# EAGLE library part XMC1000-16 (library INF-XMC)
XMC1000 Series 16 Pin
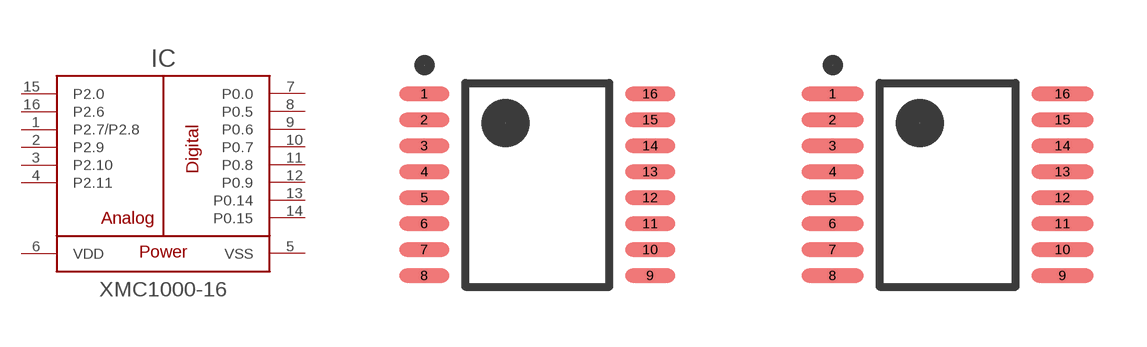
[diagram p8: symbol with the pads of TSSOP-16-1.25; footprints TSSOP-16-1.25, TSSOP-16-1.55]

Designator prefix IC

## XMC1000-16-1.25  [TSSOP-16-1.25]
1  P2.7/P2.8  in
2  P2.9  in
3  P2.10
4  P2.11
5  VSS  pwr
6  VDD  pwr
7  P0.0
8  P0.5
9  P0.6
10  P0.7
11  P0.8
12  P0.9
13  P0.14
14  P0.15
15  P2.0
16  P2.6  in

## XMC1000-16-1.55  [TSSOP-16-1.55]
Pads as for TSSOP-16-1.25

## Footprint TSSOP-16-1.25 (pad centres in mm)
TSSOP-16 pitch 0.65 mm pads 0.35 x 1.25 mm
smd 1.25 x 0.35: 1 -2.825,2.275; 2 -2.825,1.625; 3 -2.825,0.975; 4 -2.825,0.325; 5 -2.825,-0.325; 6 -2.825,-0.975; 7 -2.825,-1.625; 8 -2.825,-2.275; 9 2.825,-2.275; 10 2.825,-1.625; 11 2.825,-0.975; 12 2.825,-0.325; 13 2.825,0.325; 14 2.825,0.975; 15 2.825,1.625; 16 2.825,2.275

## Footprint TSSOP-16-1.55 (pad centres in mm)
TSSOP-16 pitch 0.65 mm, pads 0.35 x 1.55 mm
smd 1.55 x 0.35: 1 -2.875,2.275; 2 -2.875,1.625; 3 -2.875,0.975; 4 -2.875,0.325; 5 -2.875,-0.325; 6 -2.875,-0.975; 7 -2.875,-1.625; 8 -2.875,-2.275; 9 2.875,-2.275; 10 2.875,-1.625; 11 2.875,-0.975; 12 2.875,-0.325; 13 2.875,0.325; 14 2.875,0.975; 15 2.875,1.625; 16 2.875,2.275